# Altium footprint library FlexCube_Matrix_4x4 PcbLib.PcbLib: 5 footprints
Each footprint in its own frame and in the unit in brackets; x right, y up, seen from the top. Pads: shape width x height; smd on the part's side, far side on the other; paste and mask are expansions set on the pad; w line width, h text height; cw(c..) or ccw(c..) is an arc to the next point about the centre after c.
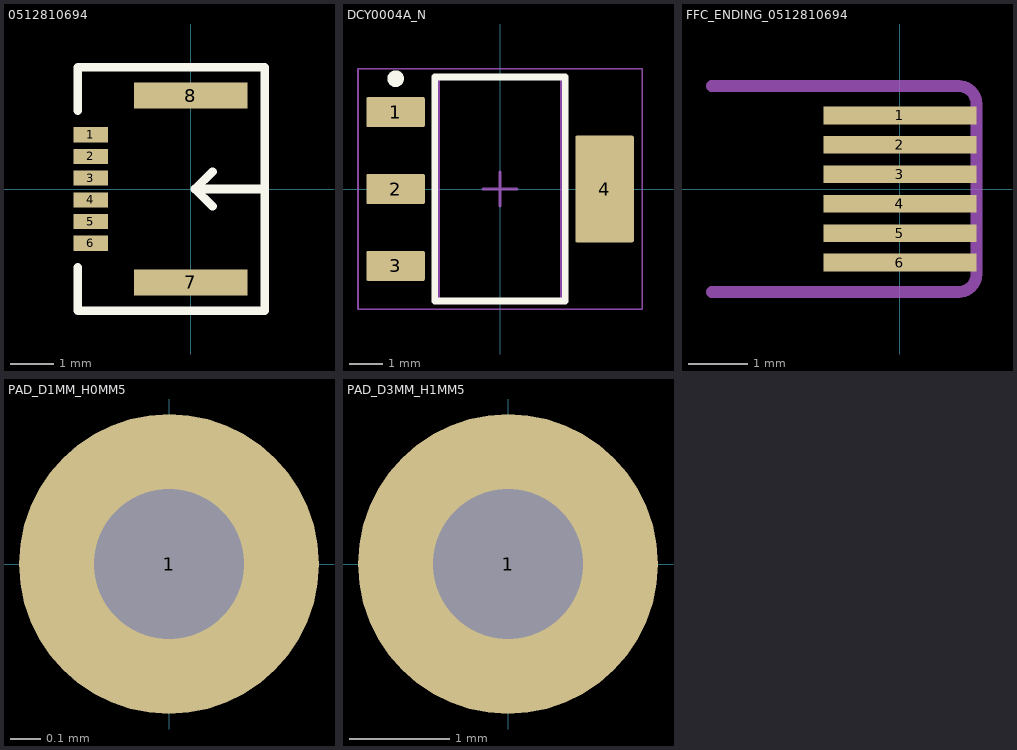
[diagram p0: the footprints below, top view; thin cyan lines are the x and y axes]

## 0512810694 [mm]
pads (8):
  rect 0.8x0.35 smd: 1(-2.3,1.25) 2(-2.3,0.75) 3(-2.3,0.25) 4(-2.3,-0.25) 5(-2.3,-0.75) 6(-2.3,-1.25)
  rect 2.6x0.6 smd: 7(0,-2.15) 8(0,2.15)
Top Overlay:
  lines w0.2: -2.6,-1.8 -2.6,-2.8 1.7,-2.8 1.7,2.8 -2.6,2.8 -2.6,1.8 ; 0.5,-0.4 0.1,0 ; 0.5,0.4 0.1,0 ; 1.7,0 0.1,0
3D body "512810694.stp": height 1.21, standoff 0.01, extent -2.5,-2.55 1.55,2.55

## DCY0004A_N [mm] "SOT223, 4-Leads, Body 6.7x3.7mm, Pitch 2.3mm, IPC Medium Density"
height 1.8
pads (4):
  rrect11% 1.75x0.9 smd: 1(-3.125,2.3) 2(-3.125,0) 3(-3.125,-2.3)
  rrect6% 1.75x3.2 smd: 4(3.125,0)
Top Overlay:
  circle w0.25: c-3.125,3.3 r0.125
  lines w0.2: -1.95,-3.35 1.95,-3.35 1.95,3.35 -1.95,3.35 -1.95,-3.35
Mechanical 1:
  text ".Designator" at -1.651,-0.254 h0.8
Mechanical 13:
  lines w0.1: -1.85,-3.35 1.85,-3.35 1.85,3.35 -1.85,3.35 -1.85,-3.35
Mechanical 15:
  lines w0.05: -4.25,-3.6 4.25,-3.6 4.25,3.6 -4.25,3.6 -4.25,-3.6
  lines w0.1: -0.5,0 0.5,0 ; 0,-0.5 0,0.5
3D body "SOT-223.stp": height 1.62, standoff -0.03, extent -3.5,-3.25 3.5,3.25

## FFC_ENDING_0512810694 [mm]
pads (6):
  rect 2.6x0.3 smd paste-10: 1(0,1.25) 2(0,0.75) 3(0,0.25) 4(0,-0.25) 5(0,-0.75) 6(0,-1.25)
Top Solder:
  rectangle: -1.5,-1.8 1.4,1.8
Mechanical 1:
  lines w0.2: -3.2,-1.75 1,-1.75 ccw(c1,-1.45) 1.3,-1.45 1.3,1.45 ccw(c1,1.45) 1,1.75 -3.2,1.75

## PAD_D1MM_H0MM5 [mm]
pads (1):
  round 1 hole 0.5: 1(0,0)

## PAD_D3MM_H1MM5 [mm]
pads (1):
  round 3 hole 1.5: 1(0,0)